# EAGLE library part ULN2003 (library TI)
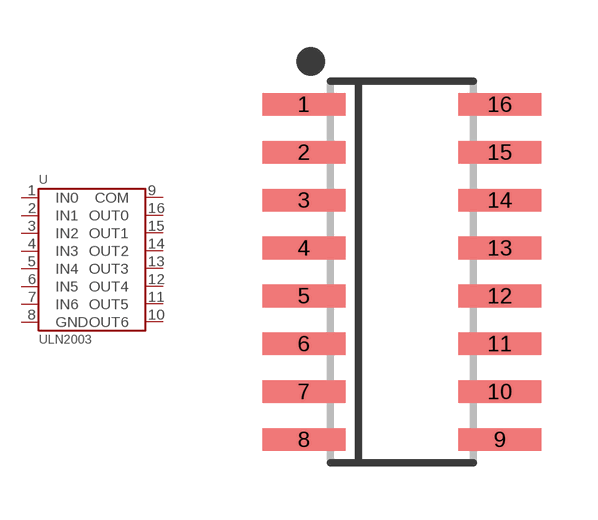
[diagram p30: symbol with the pads of SOIC-16; footprint SOIC-16]

Designator prefix U

## ULN2003ADR2G  [SOIC-16]
1  IN0
2  IN1
3  IN2
4  IN3
5  IN4
6  IN5
7  IN6
8  GND
9  COM
10  OUT6
11  OUT5
12  OUT4
13  OUT3
14  OUT2
15  OUT1
16  OUT0

## Footprint SOIC-16 (pad centres in mm)
smd 2.2 x 0.6: 1 -2.6,4.445; 2 -2.6,3.175; 3 -2.6,1.905; 4 -2.6,0.635; 5 -2.6,-0.635; 6 -2.6,-1.905; 7 -2.6,-3.175; 8 -2.6,-4.445; 9 2.6,-4.445; 10 2.6,-3.175; 11 2.6,-1.905; 12 2.6,-0.635; 13 2.6,0.635; 14 2.6,1.905; 15 2.6,3.175; 16 2.6,4.445